# EAGLE library part 25P (library con-degson)
DEGSON DG55 CONNECTOR
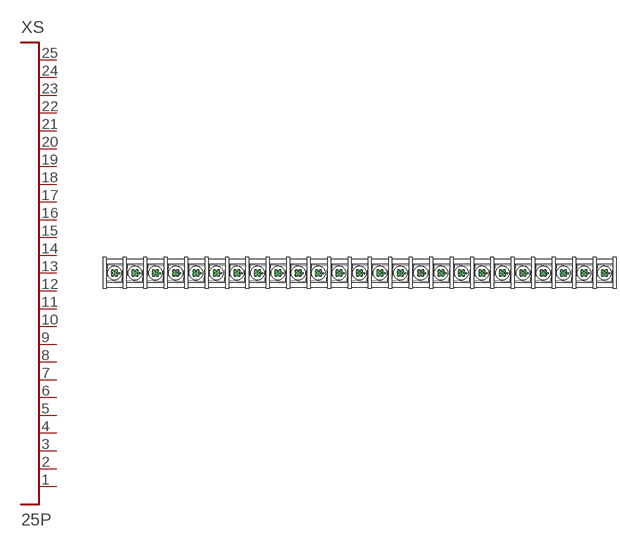
[diagram p19: symbol with the pads of DG55CB-25P-1; footprint DG55CB-25P-1]

Designator prefix XS

## 25P  [DG55CB-25P-1]
1  P$1
2  P$2
3  P$3
4  P$4
5  P$5
6  P$6
7  P$7
8  P$8
9  P$9
10  P$10
11  P$11
12  P$12
13  P$13
14  P$14
15  P$15
16  P$16
17  P$17
18  P$18
19  P$19
20  P$20
21  P$21
22  P$22
23  P$23
24  P$24
25  P$25

## Footprint DG55CB-25P-1 (pad centres in mm)
DG55
drill 1.8 pad 3.6: 1 -120,0; 2 -110,0; 3 -100,0; 4 -90,0; 5 -80,0; 6 -70,0; 7 -60,0; 8 -50,0; 9 -40,0; 10 -30,0; 11 -20,0; 12 -10,0; 13 0,0; 14 10,0; 15 20,0; 16 30,0; 17 40,0; 18 50,0; 19 60,0; 20 70,0; 21 80,0; 22 90,0; 23 100,0; 24 110,0; 25 120,0